# EAGLE library part MCP16311 (library duckgauge)
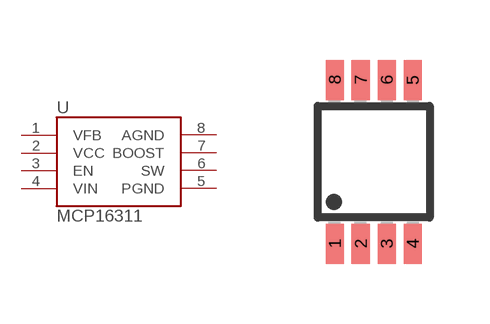
[diagram p2: symbol with the pads of MSOP8; footprint MSOP8]

Designator prefix -

## MCP16311  [MSOP8]
1  VFB
2  VCC
3  EN
4  VIN
5  PGND
6  SW
7  BOOST
8  AGND

## Footprint MSOP8 (pad centres in mm)
Micro Small Outline Package Grid .65mm
smd 0.45 x 1: 1 -0.975,-2.05; 2 -0.325,-2.05; 3 0.325,-2.05; 4 0.975,-2.05; 5 0.975,2.05; 6 0.325,2.05; 7 -0.325,2.05; 8 -0.975,2.05